# Altium footprint library PM5432223NLT.PcbLib: 1 footprints
Each footprint in its own frame and in the unit in brackets; x right, y up, seen from the top. Pads: shape width x height; smd on the part's side, far side on the other; paste and mask are expansions set on the pad; w line width, h text height; cw(c..) or ccw(c..) is an arc to the next point about the centre after c.
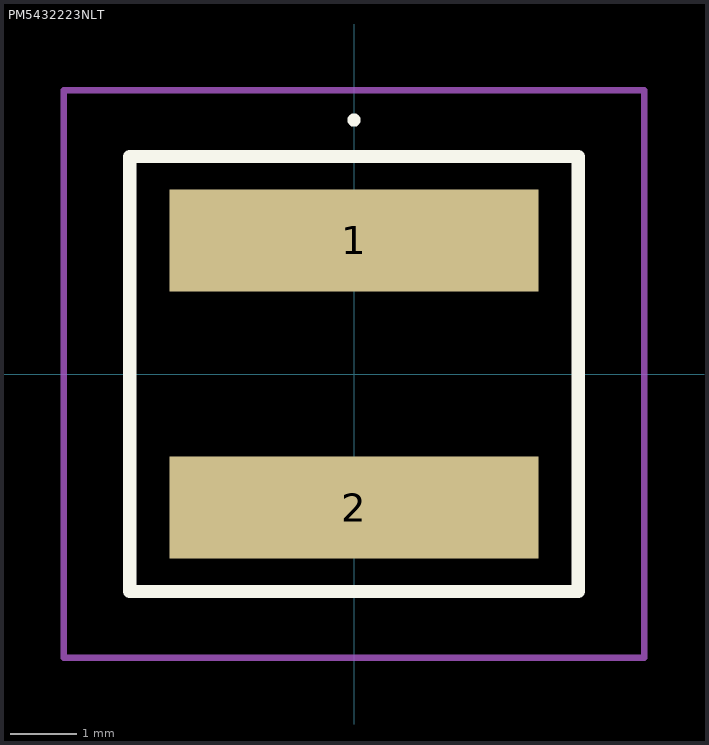
[diagram p0: the footprint, top view; thin cyan lines are the x and y axes]

## PM5432223NLT [mm]
pads (2):
  rect 5.6x1.55 smd: 1(0,2.025) 2(0,-2.025)
Top Overlay:
  lines w0.1: 0,3.8 cw(c0,3.85) 0,3.9 cw(c0,3.85) 0,3.8
  lines w0.2: -3.4,-3.3 -3.4,3.3 3.4,3.3 3.4,-3.3 -3.4,-3.3
Mechanical 15:
  lines w0.1: -3.4,-3.3 -3.4,3.3 3.4,3.3 3.4,-3.3 -3.4,-3.3
Mechanical 20:
  lines w0.1: -4.4,-4.3 -4.4,4.3 4.4,4.3 4.4,-4.3 -4.4,-4.3
3D body "PM5432.223NLT.stp": height 6.05, standoff 0.05, extent -3.4,-3.3 3.4,3.3